# Altium footprint library Header.PcbLib: 41 footprints (part 2 of 3)
Each footprint in its own frame and in the unit in brackets; x right, y up, seen from the top. Pads: shape width x height; smd on the part's side, far side on the other; paste and mask are expansions set on the pad; w line width, h text height; cw(c..) or ccw(c..) is an arc to the next point about the centre after c.
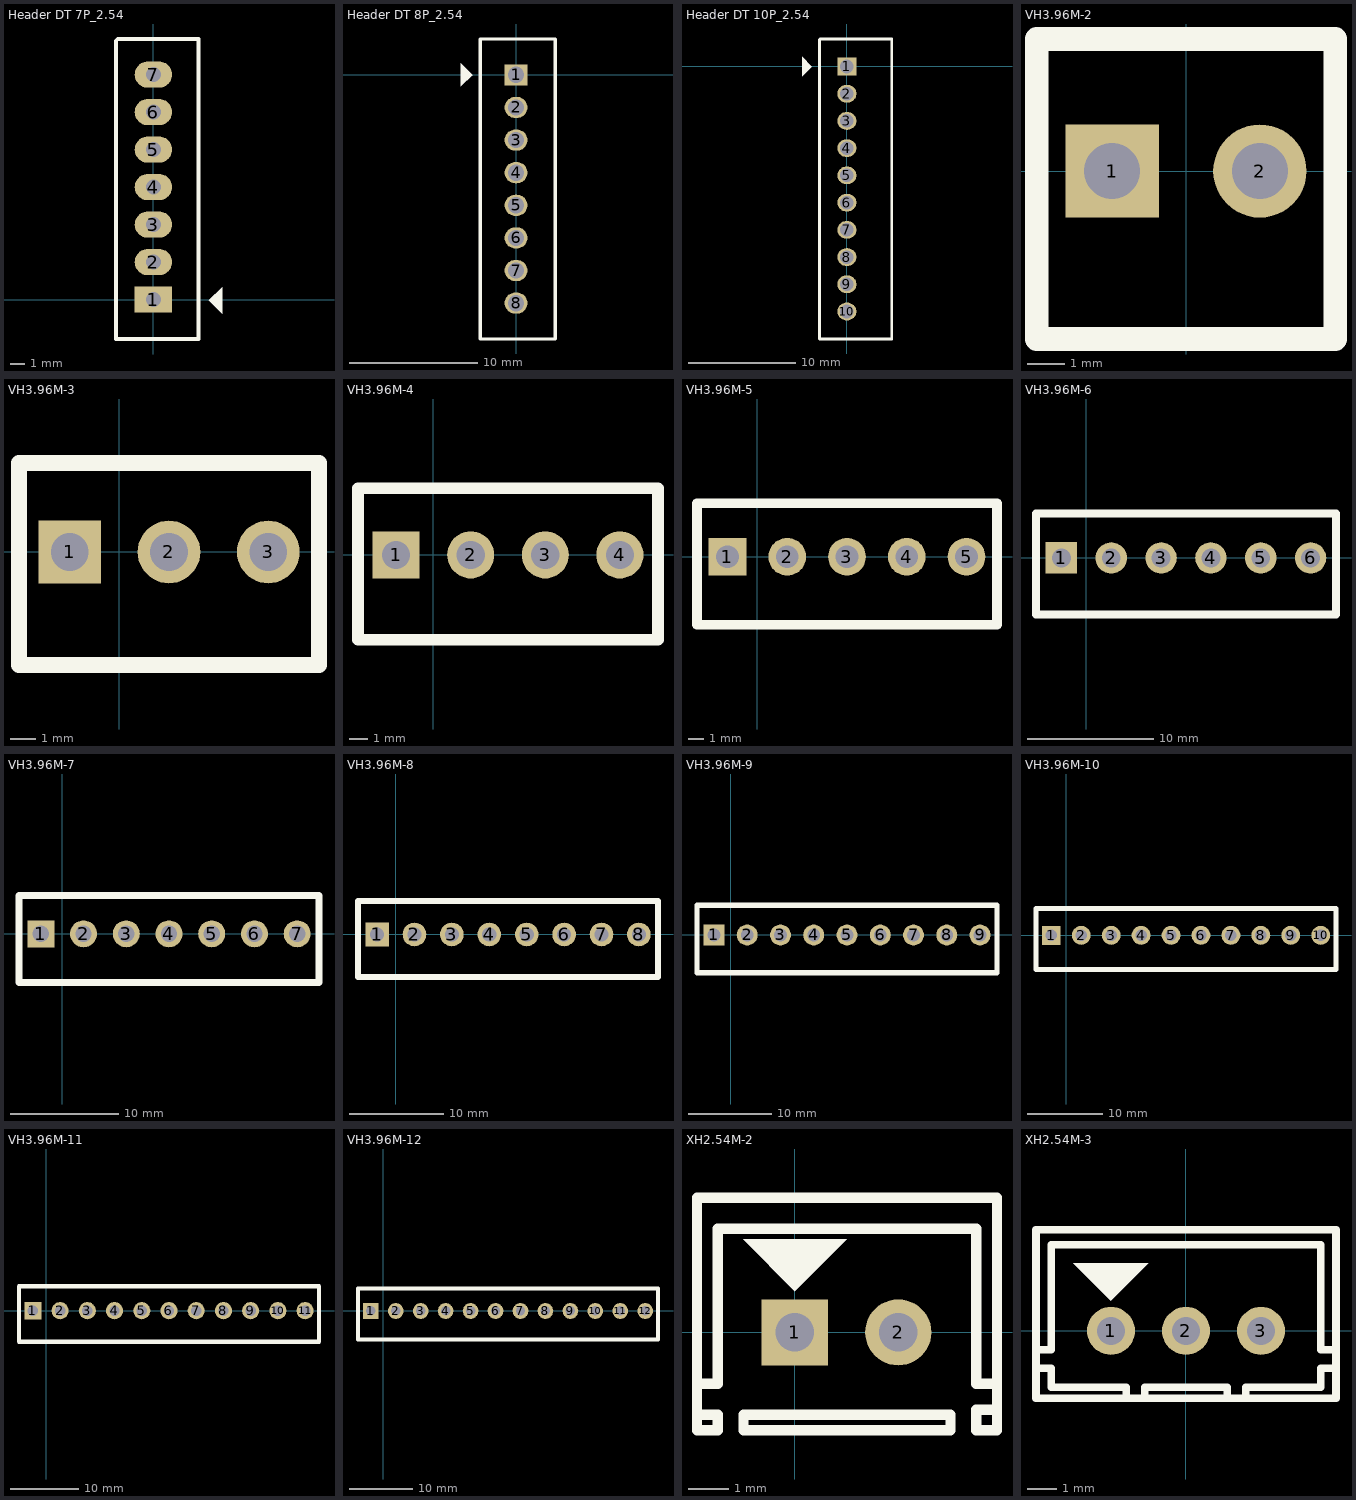
[diagram p1: the footprints below, top view; thin cyan lines are the x and y axes]

## Header DT 7P_2.54 [mil]
pads (7):
  rect 100x70 hole 40: 1(0,0)
  oval 100x70 hole 40: 2(0,100) 3(0,200) 4(0,300) 5(0,400) 6(0,500) 7(0,600)
Top Overlay:
  region: 183,-38 183,33 148,-2 147,-2
  lines w10: -100,-105.04 120,-105.04 120,694.96 -95,694.96 -100,689.96 -100,-105.04

## Header DT 8P_2.54 [mil]
pads (8):
  rect 70x65 hole 50: 1(0,0)
  oval 70x65 hole 50: 2(0,-100) 3(0,-200) 4(0,-300) 5(0,-400) 6(0,-500) 7(0,-600) 8(0,-700)
Top Overlay:
  region: -169.5,35.5 -169.5,-35.5 -134.5,-0.5 -133.5,-0.5
  lines w10: -110,-810 -110,110 120,110 120,-810 -110,-810
3D body "Header 10 2.54 duc thang.stp": height 550, standoff -129, extent -110,-810 116.5,110

## Header DT 10P_2.54 [mil]
pads (10):
  rect 70x65 hole 50: 1(0,0)
  oval 70x65 hole 50: 2(0,-100) 3(0,-200) 4(0,-300) 5(0,-400) 6(0,-500) 7(0,-600) 8(0,-700) 9(0,-800) 10(0,-900)
Top Overlay:
  region: -164.5,35.5 -164.5,-35.5 -129.5,-0.5 -128.5,-0.5
  lines w10: -101,-1001 -101,99 -99,101 165,101 165,-1001 -101,-1001
3D body "31550.stp": height 550, standoff -115, extent -98,-1000 162,100

## VH3.96M-2 [mm]
pads (2):
  rect 2.5x2.5 hole 1.5: 1(-1.98,0)
  round 2.5 hole 1.5: 2(1.98,0)
Top Overlay:
  lines w0.635: 3.96,3.5 4,3.54 ; 4,3.54 4,-4.5 -4,-4.5 -4,3.54 4,3.54
3D body "VH3.96M-2.STEP": height 10.26, standoff -3.19, extent -4.08,-4.49 3.96,3.88

## VH3.96M-3 [mm]
pads (3):
  rect 2.5x2.5 hole 1.5: 1(-1.98,0)
  round 2.5 hole 1.5: 2(1.98,0) 3(5.94,0)
Top Overlay:
  lines w0.635: -4,-4.5 7.96,-4.5 7.96,3.54 -4,3.54 -4,-4.5
3D body "VH3.96M-3.STEP": height 10.26, standoff -3.19, extent -4.08,-4.49 7.92,3.88

## VH3.96M-4 [mm]
pads (4):
  rect 2.5x2.5 hole 1.5: 1(-1.98,0)
  round 2.5 hole 1.5: 2(1.98,0) 3(5.94,0) 4(9.9,0)
Top Overlay:
  lines w0.635: -4,-4.5 -4,3.54 11.92,3.54 11.92,-4.5 -4,-4.5
3D body "VH3.96M-4.STEP": height 10.26, standoff -3.19, extent -4.08,-4.49 11.88,3.88

## VH3.96M-5 [mm]
pads (5):
  rect 2.5x2.5 hole 1.5: 1(-1.98,0)
  round 2.5 hole 1.5: 2(1.98,0) 3(5.94,0) 4(9.9,0) 5(13.86,0)
Top Overlay:
  lines w0.635: -4,-4.5 15.88,-4.5 15.88,3.54 -4,3.54 -4,-4.5
3D body "VH3.96M-5.STEP": height 10.26, standoff -3.19, extent -4.08,-4.49 15.84,3.88

## VH3.96M-6 [mm]
pads (6):
  rect 2.5x2.5 hole 1.5: 1(-1.98,0)
  round 2.5 hole 1.5: 2(1.98,0) 3(5.94,0) 4(9.9,0) 5(13.86,0) 6(17.82,0)
Top Overlay:
  lines w0.635: -4,-4.5 19.84,-4.5 19.84,3.54 -4,3.54 -4,-4.5
3D body "VH3.96M-6.STEP": height 10.26, standoff -3.19, extent -4.08,-4.49 19.8,3.88

## VH3.96M-7 [mm]
pads (7):
  rect 2.5x2.5 hole 1.5: 1(-1.98,0)
  round 2.5 hole 1.5: 2(1.98,0) 3(5.94,0) 4(9.9,0) 5(13.86,0) 6(17.82,0) 7(21.78,0)
Top Overlay:
  lines w0.635: -4,-4.5 23.8,-4.5 23.8,3.54 -4,3.54 -4,-4.5
3D body "VH3.96M-7.STEP": height 10.26, standoff -3.19, extent -4.08,-4.49 23.76,3.88

## VH3.96M-8 [mm]
pads (8):
  rect 2.5x2.5 hole 1.5: 1(-1.98,0)
  round 2.5 hole 1.5: 2(1.98,0) 3(5.94,0) 4(9.9,0) 5(13.86,0) 6(17.82,0) 7(21.78,0) 8(25.74,0)
Top Overlay:
  lines w0.635: -4,-4.5 -4,3.54 27.76,3.54 27.76,-4.5 -4,-4.5
3D body "VH3.96M-8.STEP": height 10.26, standoff -3.19, extent -4.08,-4.49 27.72,3.88

## VH3.96M-9 [mm]
pads (9):
  rect 2.5x2.5 hole 1.5: 1(-1.98,0)
  round 2.5 hole 1.5: 2(1.98,0) 3(5.94,0) 4(9.9,0) 5(13.86,0) 6(17.82,0) 7(21.78,0) 8(25.74,0) 9(29.7,0)
Top Overlay:
  lines w0.635: -4,-4.5 -4,3.54 31.72,3.54 31.72,-4.5 -4,-4.5
3D body "VH3.96M-9.STEP": height 10.26, standoff -3.19, extent -4.08,-4.49 31.68,3.88

## VH3.96M-10 [mm]
pads (10):
  rect 2.5x2.5 hole 1.5: 1(-1.98,0)
  round 2.5 hole 1.5: 2(1.98,0) 3(5.94,0) 4(9.9,0) 5(13.86,0) 6(17.82,0) 7(21.78,0) 8(25.74,0) 9(29.7,0) 10(33.66,0)
Top Overlay:
  lines w0.635: -4,-4.5 35.68,-4.5 35.68,3.54 -4,3.54 -4,-4.5
3D body "VH3.96M-10.STEP": height 10.26, standoff -3.19, extent -4.08,-4.49 35.64,3.88

## VH3.96M-11 [mm]
pads (11):
  rect 2.5x2.5 hole 1.5: 1(-1.98,0)
  round 2.5 hole 1.5: 2(1.98,0) 3(5.94,0) 4(9.9,0) 5(13.86,0) 6(17.82,0) 7(21.78,0) 8(25.74,0) 9(29.7,0) 10(33.66,0) 11(37.62,0)
Top Overlay:
  lines w0.635: -4,-4.5 -4,3.54 39.64,3.54 39.64,-4.5 -4,-4.5
3D body "VH3.96M-11.STEP": height 10.26, standoff -3.19, extent -4.08,-4.49 39.6,3.88

## VH3.96M-12 [mm]
pads (12):
  rect 2.5x2.5 hole 1.5: 1(-1.98,0)
  round 2.5 hole 1.5: 2(1.98,0) 3(5.94,0) 4(9.9,0) 5(13.86,0) 6(17.82,0) 7(21.78,0) 8(25.74,0) 9(29.7,0) 10(33.66,0) 11(37.62,0) 12(41.58,0)
Top Overlay:
  lines w0.635: -4,-4.5 -4,3.54 43.6,3.54 43.6,-4.5 -4,-4.5
3D body "VH3.96M-12.STEP": height 10.26, standoff -3.19, extent -4.08,-4.49 43.56,3.88

## XH2.54M-2 [mil]
pads (2):
  rect 64x64 hole 37.4: 1(0,0)
  round 64 hole 37.4: 2(100,0)
Top Overlay:
  region: -50,90 50,90 0,40
  lines w10: -94.56,-74.72 -94.56,-79.72 -74.56,-79.72 -74.56,-94.72 -94.56,-94.72 -94.56,130.28 195.44,130.28 195.44,-94.72 175.44,-94.72 175.44,-74.72 195.44,-74.72 ; -94.56,-49.72 -74.56,-49.72 -74.56,100.28 175.44,100.28 175.44,-49.72 195.44,-49.72 195.44,-54.72 ; -49.56,-94.72 -49.56,-79.72 150.44,-79.72 150.44,-94.72 -49.56,-94.72
3D body "User Library-User Library-jst-b2b-xh-a.STEP": height 283.46, standoff -125.98, extent -95.23,-92.91 196.11,133.47

## XH2.54M-3 [mm]
pads (3):
  round 1.626 hole 0.95: 1(-2.54,0) 2(0,0) 3(2.54,0)
Top Overlay:
  region: -3.81,2.286 -1.27,2.286 -2.54,1.016
  lines w0.254: -5.078,-1.27 -4.57,-1.27 -4.57,-1.905 -2.03,-1.905 -2.03,-2.286 ; -5.078,-0.635 -4.57,-0.635 -4.57,2.921 4.572,2.921 4.572,-0.635 5.08,-0.635 ; -1.397,-2.286 -1.397,-1.905 1.399,-1.905 1.399,-2.286 ; 2.032,-2.286 2.032,-1.905 4.572,-1.905 4.572,-1.27 5.08,-1.27 ; -5.078,-2.286 5.08,-2.286 5.08,3.429 -5.078,3.429 -5.078,-2.286
3D body "XH2.54M-3.STEP": height 7.1, standoff -1.63, extent -5,-2.3 5.04,3.44